# EAGLE library part ADS1115 (library ADS1115)
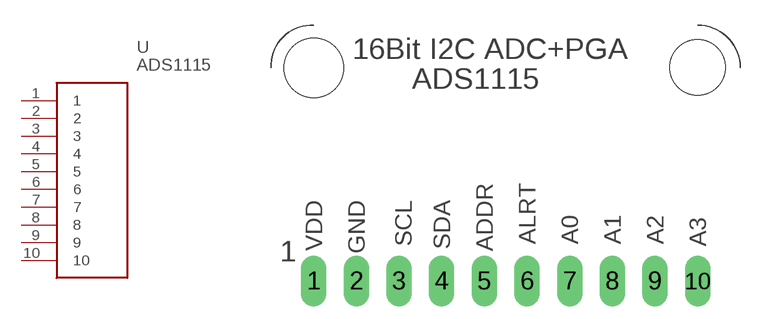
[diagram p0: symbol with the pads of ADS111X; footprint ADS111X]

Designator prefix -

## ADS1115  [ADS111X]
1  1
2  2
3  3
4  4
5  5
6  6
7  7
8  8
9  9
10  10

## Footprint ADS111X (pad centres in mm)
drill 1.016 long: 1 3.81,0; 2 6.35,0; 3 8.89,0; 4 11.43,0; 5 13.97,0; 6 16.51,0; 7 19.05,0; 8 21.59,0; 9 24.13,0; 10 26.67,0
hole 3.556 at 3.81,12.7
hole 3.302 at 26.657,12.725